# EAGLE library part CH552P (library Gowin)
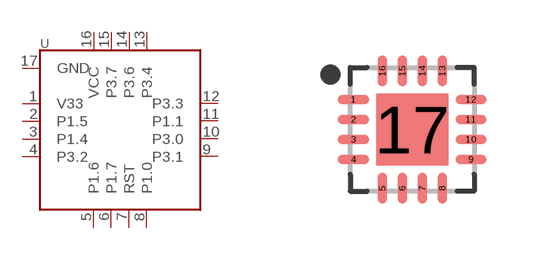
[diagram p2: symbol with the pads of QFN50P300X300X55-17T180N; footprint QFN50P300X300X55-17T180N]

Designator prefix -

## CH552P  [QFN50P300X300X55-17T180N]
1  V33
2  P1.5
3  P1.4
4  P3.2
5  P1.6
6  P1.7
7  RST
8  P1.0
9  P3.1
10  P3.0
11  P1.1
12  P3.3
13  P3.4
14  P3.6
15  P3.7
16  VCC
17  GND

## Footprint QFN50P300X300X55-17T180N (pad centres in mm)
16-QFN, 0.50 mm pitch, 3.00 X 3.00 X 0.55 mm body, 1.80 X 1.80 mm thermal pad 16-pin QFN package with 0.50 mm pitch with body size 3.00 X 3.00 X 0.55 mm and thermal pad size 1.80 X 1.80 mm
smd 0.788 x 0.242: 1 -1.471,0.75; 2 -1.471,0.25; 3 -1.471,-0.25; 4 -1.471,-0.75; 9 1.471,-0.75; 10 1.471,-0.25; 11 1.471,0.25; 12 1.471,0.75
smd 0.242 x 0.788: 5 -0.75,-1.471; 6 -0.25,-1.471; 7 0.25,-1.471; 8 0.75,-1.471; 13 0.75,1.471; 14 0.25,1.471; 15 -0.25,1.471; 16 -0.75,1.471
smd 1.8 x 1.8: 17 0,0